# Altium integrated library Motorola Discrete MOSFET.IntLib: 162 symbols (part 3 of 3)
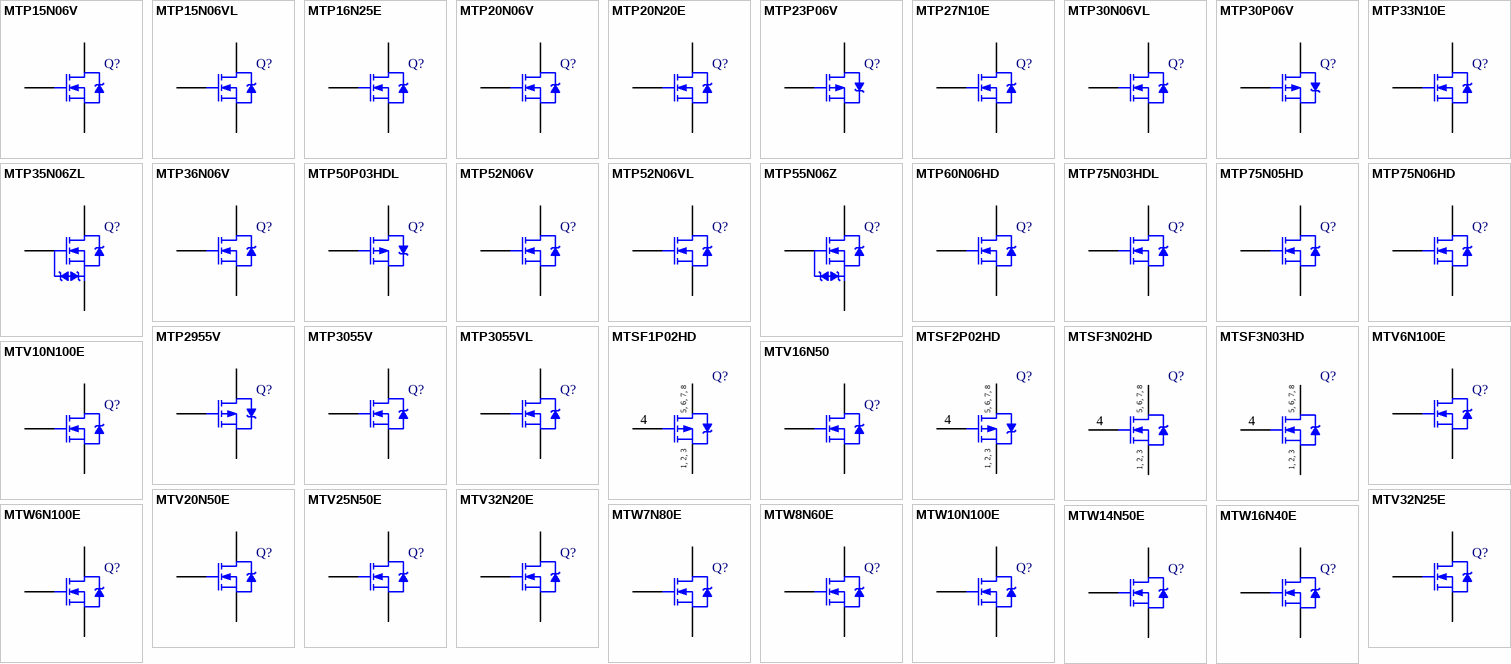
[diagram p6: symbols MTP15N06V to MTW16N40E]

## MTP16N25E
designator Q?
TMOS E-FET Power Field Effect Transistor; Note: Pin 2 is electrically connected to Pin 4 (TAB); ComponentAvailability: Obsolete; Published: 29-Sep-2000; LatestRevisionDate: 17-Jul-2002; LatestRevisionNote: Re-released for DXP Platform.; DatasheetVersion: 1995; PackageVersion: 1997; PackageReference: 221A-06; Publisher: Altium Limited; PackageDescription: TO, Thru-Hole, Vertical, Heatsink Mounted; 3 In-Line Leads; Pitch 2.54 mm; Code_JEDEC: TO-262-AA; ComponentLink1Description: Manufacturer Link; ComponentLink1URL: http://www.onsemi.com/site/products/landing?taxonomyID=194; ComponentLink2Description: Datasheet; ComponentLink2URL: http://www.onsemi.com/pub/Collateral/MTP16N25E-D.PDF
footprint 221A-06 (TO, Thru-Hole, Vertical, Heatsink Mounted; 3 In-Line Leads; Pitch 2.54 mm)
simulation model MTP16N25E (SUBCKT)
pins: 1 G, 2 D, 3 S

## MTP20N06V
designator Q?
TMOS V Power Field Effect Transistor; Note: Pin 2 is electrically connected to Pin 4 (TAB); Published: 29-Sep-2000; LatestRevisionDate: 17-Jul-2002; LatestRevisionNote: Re-released for DXP Platform.; DatasheetVersion: 1996; PackageVersion: 1997; PackageReference: 221A-06; Publisher: Altium Limited; PackageDescription: TO, Thru-Hole, Vertical, Heatsink Mounted; 3 In-Line Leads; Pitch 2.54 mm; Code_JEDEC: TO-262-AA; ComponentLink1Description: Manufacturer Link; ComponentLink1URL: http://www.onsemi.com/site/products/landing?taxonomyID=194; ComponentLink2Description: Datasheet; ComponentLink2URL: http://www.onsemi.com/pub/Collateral/MTP20N06V-D.PDF
footprint 221A-06 (TO, Thru-Hole, Vertical, Heatsink Mounted; 3 In-Line Leads; Pitch 2.54 mm)
simulation model MTP20N06V (SUBCKT)
pins: 1 G, 2 D, 3 S

## MTP20N20E
designator Q?
TMOS E-FET Power Field Effect Transistor; Note: Pin 2 is electrically connected to Pin 4 (TAB); ComponentAvailability: Obsolete; Published: 29-Sep-2000; LatestRevisionDate: 17-Jul-2002; LatestRevisionNote: Re-released for DXP Platform.; DatasheetVersion: 1995; PackageVersion: 1997; PackageReference: 221A-06; Publisher: Altium Limited; PackageDescription: TO, Thru-Hole, Vertical, Heatsink Mounted; 3 In-Line Leads; Pitch 2.54 mm; Code_JEDEC: TO-262-AA; ComponentLink1Description: Manufacturer Link; ComponentLink1URL: http://www.onsemi.com/site/products/landing?taxonomyID=194; ComponentLink2Description: Datasheet; ComponentLink2URL: http://www.onsemi.com/pub/Collateral/MTP20N20E-D.PDF
footprint 221A-06 (TO, Thru-Hole, Vertical, Heatsink Mounted; 3 In-Line Leads; Pitch 2.54 mm)
simulation model MTP20N20E (SUBCKT)
pins: 1 G, 2 D, 3 S

## MTP23P06V
designator Q?
TMOS V Power Field Effect Transistor; Note: Pin 2 is electrically connected to Pin 4 (TAB); Published: 29-Sep-2000; LatestRevisionDate: 17-Jul-2002; LatestRevisionNote: Re-released for DXP Platform.; DatasheetVersion: 1996; PackageVersion: 1997; PackageReference: 221A-06; Publisher: Altium Limited; PackageDescription: TO, Thru-Hole, Vertical, Heatsink Mounted; 3 In-Line Leads; Pitch 2.54 mm; Code_JEDEC: TO-262-AA; ComponentLink1Description: Manufacturer Link; ComponentLink1URL: http://www.onsemi.com/site/products/landing?taxonomyID=194; ComponentLink2Description: Datasheet; ComponentLink2URL: http://www.onsemi.com/pub/Collateral/MTP23P06V-D.PDF
footprint 221A-06 (TO, Thru-Hole, Vertical, Heatsink Mounted; 3 In-Line Leads; Pitch 2.54 mm)
simulation model MTP23P06V (SUBCKT)
pins: 1 G, 2 D, 3 S

## MTP27N10E
designator Q?
TMOS E-FET Power Field Effect Transistor; Note: Pin 2 is electrically connected to Pin 4 (TAB); Published: 29-Sep-2000; LatestRevisionDate: 17-Jul-2002; LatestRevisionNote: Re-released for DXP Platform.; DatasheetVersion: 1996; PackageVersion: 1997; PackageReference: 221A-06; Publisher: Altium Limited; PackageDescription: TO, Thru-Hole, Vertical, Heatsink Mounted; 3 In-Line Leads; Pitch 2.54 mm; Code_JEDEC: TO-262-AA; ComponentLink1Description: Manufacturer Link; ComponentLink1URL: http://www.onsemi.com/site/products/landing?taxonomyID=194; ComponentLink2Description: Datasheet; ComponentLink2URL: http://www.onsemi.com/pub/Collateral/MTP27N10E-D.PDF
footprint 221A-06 (TO, Thru-Hole, Vertical, Heatsink Mounted; 3 In-Line Leads; Pitch 2.54 mm)
simulation model MTP27N10E (SUBCKT)
pins: 1 G, 2 D, 3 S

## MTP30N06VL
designator Q?
TMOS V Power Field Effect Transistor; Note: Pin 2 is electrically connected to Pin 4 (TAB); ComponentAvailability: Obsolete; Published: 29-Sep-2000; LatestRevisionDate: 17-Jul-2002; LatestRevisionNote: Re-released for DXP Platform.; DatasheetVersion: 1996; PackageVersion: 1997; PackageReference: 221A-06; Publisher: Altium Limited; PackageDescription: TO, Thru-Hole, Vertical, Heatsink Mounted; 3 In-Line Leads; Pitch 2.54 mm; Code_JEDEC: TO-262-AA; ComponentLink1Description: Manufacturer Link; ComponentLink1URL: http://www.onsemi.com/site/products/landing?taxonomyID=194; ComponentLink2Description: Datasheet; ComponentLink2URL: http://www.onsemi.com/pub/Collateral/MTP30N06VL-D.PDF
footprint 221A-06 (TO, Thru-Hole, Vertical, Heatsink Mounted; 3 In-Line Leads; Pitch 2.54 mm)
simulation model MTP30N06VL (SUBCKT)
pins: 1 G, 2 D, 3 S

## MTP30P06V
designator Q?
TMOS V Power Field Effect Transistor; Note: Pin 2 is electrically connected to Pin 4 (TAB); ComponentAvailability: Obsolete; Published: 29-Sep-2000; LatestRevisionDate: 17-Jul-2002; LatestRevisionNote: Re-released for DXP Platform.; DatasheetVersion: 1996; PackageVersion: 1997; PackageReference: 221A-06; Publisher: Altium Limited; PackageDescription: TO, Thru-Hole, Vertical, Heatsink Mounted; 3 In-Line Leads; Pitch 2.54 mm; Code_JEDEC: TO-262-AA; ComponentLink1Description: Manufacturer Link; ComponentLink1URL: http://www.onsemi.com/site/products/landing?taxonomyID=194; ComponentLink2Description: Datasheet; ComponentLink2URL: http://www.onsemi.com/pub/Collateral/MTP30P06V-D.PDF
footprint 221A-06 (TO, Thru-Hole, Vertical, Heatsink Mounted; 3 In-Line Leads; Pitch 2.54 mm)
simulation model MTP30P06V (SUBCKT)
pins: 1 G, 2 D, 3 S

## MTP33N10E
designator Q?
TMOS E-FET Power Field Effect Transistor; Note: Pin 2 is electrically connected to Pin 4 (TAB); ComponentAvailability: Obsolete; Published: 29-Sep-2000; LatestRevisionDate: 17-Jul-2002; LatestRevisionNote: Re-released for DXP Platform.; DatasheetVersion: 1995; PackageVersion: 1997; PackageReference: 221A-06; Publisher: Altium Limited; PackageDescription: TO, Thru-Hole, Vertical, Heatsink Mounted; 3 In-Line Leads; Pitch 2.54 mm; Code_JEDEC: TO-262-AA; ComponentLink1Description: Manufacturer Link; ComponentLink1URL: http://www.onsemi.com/site/products/landing?taxonomyID=194; ComponentLink2Description: Datasheet; ComponentLink2URL: http://www.onsemi.com/pub/Collateral/MTP33N10E-D.PDF
footprint 221A-06 (TO, Thru-Hole, Vertical, Heatsink Mounted; 3 In-Line Leads; Pitch 2.54 mm)
simulation model MTP33N10E (SUBCKT)
pins: 1 G, 2 D, 3 S

## MTP35N06ZL
designator Q?
HDTMOS E-FET Power Field Effect Transistor; Note: Pin 2 is electrically connected to Pin 4 (TAB); Published: 29-Sep-2000; LatestRevisionDate: 17-Jul-2002; LatestRevisionNote: Re-released for DXP Platform.; PackageVersion: 1997; PackageReference: 221A-06; Publisher: Altium Limited; PackageDescription: TO, Thru-Hole, Vertical, Heatsink Mounted; 3 In-Line Leads; Pitch 2.54 mm; Code_JEDEC: TO-262-AA; ComponentLink1Description: Manufacturer Link; ComponentLink1URL: http://www.onsemi.com/site/products/landing?taxonomyID=194
footprint 221A-06 (TO, Thru-Hole, Vertical, Heatsink Mounted; 3 In-Line Leads; Pitch 2.54 mm)
simulation model MTP35N06ZL (SUBCKT)
pins: 1 G, 2 D, 3 S

## MTP36N06V
designator Q?
TMOS V Power Field Effect Transistor; Note: Pin 2 is electrically connected to Pin 4 (TAB); ComponentAvailability: Obsolete; Published: 29-Sep-2000; LatestRevisionDate: 17-Jul-2002; LatestRevisionNote: Re-released for DXP Platform.; DatasheetVersion: 1996; PackageVersion: 1997; PackageReference: 221A-06; Publisher: Altium Limited; PackageDescription: TO, Thru-Hole, Vertical, Heatsink Mounted; 3 In-Line Leads; Pitch 2.54 mm; Code_JEDEC: TO-262-AA; ComponentLink1Description: Manufacturer Link; ComponentLink1URL: http://www.onsemi.com/site/products/landing?taxonomyID=194; ComponentLink2Description: Datasheet; ComponentLink2URL: http://www.onsemi.com/pub/Collateral/MTP36N06V-D.PDF
footprint 221A-06 (TO, Thru-Hole, Vertical, Heatsink Mounted; 3 In-Line Leads; Pitch 2.54 mm)
simulation model MTP36N06V (SUBCKT)
pins: 1 G, 2 D, 3 S

## MTP50P03HDL
designator Q?
HDTMOS E-FET Power Field Effect Transistor; Note: Pin 2 is electrically connected to Pin 4 (TAB); Published: 29-Sep-2000; LatestRevisionDate: 17-Jul-2002; LatestRevisionNote: Re-released for DXP Platform.; DatasheetVersion: 1997; PackageVersion: 1997; PackageReference: 221A-06; Publisher: Altium Limited; PackageDescription: TO, Thru-Hole, Vertical, Heatsink Mounted; 3 In-Line Leads; Pitch 2.54 mm; Code_JEDEC: TO-262-AA; ComponentLink1Description: Manufacturer Link; ComponentLink1URL: http://www.onsemi.com/site/products/landing?taxonomyID=194; ComponentLink2Description: Datasheet; ComponentLink2URL: http://www.onsemi.com/pub/Collateral/MTP50P03HDL-D.PDF
footprint 221A-06 (TO, Thru-Hole, Vertical, Heatsink Mounted; 3 In-Line Leads; Pitch 2.54 mm)
simulation model MTP50P03HDL (SUBCKT)
pins: 1 G, 2 D, 3 S

## MTP52N06V
designator Q?
TMOS V Power Field Effect Transistor; Note: Pin 2 is electrically connected to Pin 4 (TAB); ComponentAvailability: Obsolete; Published: 29-Sep-2000; LatestRevisionDate: 17-Jul-2002; LatestRevisionNote: Re-released for DXP Platform.; DatasheetVersion: 1996; PackageVersion: 1997; PackageReference: 221A-06; Publisher: Altium Limited; PackageDescription: TO, Thru-Hole, Vertical, Heatsink Mounted; 3 In-Line Leads; Pitch 2.54 mm; Code_JEDEC: TO-262-AA; ComponentLink1Description: Manufacturer Link; ComponentLink1URL: http://www.onsemi.com/site/products/landing?taxonomyID=194; ComponentLink2Description: Datasheet; ComponentLink2URL: http://www.onsemi.com/pub/Collateral/MTP52N06V-D.PDF
footprint 221A-06 (TO, Thru-Hole, Vertical, Heatsink Mounted; 3 In-Line Leads; Pitch 2.54 mm)
simulation model MTP52N06V (SUBCKT)
pins: 1 G, 2 D, 3 S

## MTP52N06VL
designator Q?
TMOS V Power Field Effect Transistor; Note: Pin 2 is electrically connected to Pin 4 (TAB); ComponentAvailability: Obsolete; Published: 29-Sep-2000; LatestRevisionDate: 17-Jul-2002; LatestRevisionNote: Re-released for DXP Platform.; DatasheetVersion: 1996; PackageVersion: 1997; PackageReference: 221A-06; Publisher: Altium Limited; PackageDescription: TO, Thru-Hole, Vertical, Heatsink Mounted; 3 In-Line Leads; Pitch 2.54 mm; Code_JEDEC: TO-262-AA; ComponentLink1Description: Manufacturer Link; ComponentLink1URL: http://www.onsemi.com/site/products/landing?taxonomyID=194; ComponentLink2Description: Datasheet; ComponentLink2URL: http://www.onsemi.com/pub/Collateral/MTP52N06VL-D.PDF
footprint 221A-06 (TO, Thru-Hole, Vertical, Heatsink Mounted; 3 In-Line Leads; Pitch 2.54 mm)
simulation model MTP52N06VL (SUBCKT)
pins: 1 G, 2 D, 3 S

## MTP55N06Z
designator Q?
TMOS E-FET Power Field Effect Transistor; Note: Pin 2 is electrically connected to Pin 4 (TAB); Published: 29-Sep-2000; LatestRevisionDate: 17-Jul-2002; LatestRevisionNote: Re-released for DXP Platform.; DatasheetVersion: 1997; PackageVersion: 1997; PackageReference: 221A-06; Publisher: Altium Limited; PackageDescription: TO, Thru-Hole, Vertical, Heatsink Mounted; 3 In-Line Leads; Pitch 2.54 mm; Code_JEDEC: TO-262-AA; ComponentLink1Description: Manufacturer Link; ComponentLink1URL: http://www.onsemi.com/site/products/landing?taxonomyID=194
footprint 221A-06 (TO, Thru-Hole, Vertical, Heatsink Mounted; 3 In-Line Leads; Pitch 2.54 mm)
simulation model MTP55N06Z (SUBCKT)
pins: 1 G, 2 D, 3 S

## MTP60N06HD
designator Q?
HDTMOS E-FET Power Field Effect Transistor; Note: Pin 2 is electrically connected to Pin 4 (TAB); Published: 29-Sep-2000; LatestRevisionDate: 17-Jul-2002; LatestRevisionNote: Re-released for DXP Platform.; DatasheetVersion: 1995; PackageVersion: 1997; PackageReference: 221A-06; Publisher: Altium Limited; PackageDescription: TO, Thru-Hole, Vertical, Heatsink Mounted; 3 In-Line Leads; Pitch 2.54 mm; Code_JEDEC: TO-262-AA; ComponentLink1Description: Manufacturer Link; ComponentLink1URL: http://www.onsemi.com/site/products/landing?taxonomyID=194; ComponentLink2Description: Datasheet; ComponentLink2URL: http://www.onsemi.com/pub/Collateral/MTP60N06HD-D.PDF
footprint 221A-06 (TO, Thru-Hole, Vertical, Heatsink Mounted; 3 In-Line Leads; Pitch 2.54 mm)
simulation model MTP60N06HD (SUBCKT)
pins: 1 G, 2 D, 3 S

## MTP75N03HDL
designator Q?
HDTMOS E-FET High Density Power FET; Note: Pin 2 is electrically connected to Pin 4 (TAB); ComponentAvailability: Obsolete; Published: 29-Sep-2000; LatestRevisionDate: 17-Jul-2002; LatestRevisionNote: Re-released for DXP Platform.; DatasheetVersion: 1995; PackageVersion: 1997; PackageReference: 221A-06; Publisher: Altium Limited; PackageDescription: TO, Thru-Hole, Vertical, Heatsink Mounted; 3 In-Line Leads; Pitch 2.54 mm; Code_JEDEC: TO-262-AA; ComponentLink1Description: Manufacturer Link; ComponentLink1URL: http://www.onsemi.com/site/products/landing?taxonomyID=194; ComponentLink2Description: Datasheet; ComponentLink2URL: http://www.onsemi.com/pub/Collateral/MTP75N03HDL-D.PDF
footprint 221A-06 (TO, Thru-Hole, Vertical, Heatsink Mounted; 3 In-Line Leads; Pitch 2.54 mm)
simulation model MTP75N03HDL (SUBCKT)
pins: 1 G, 2 D, 3 S

## MTP75N05HD
designator Q?
HDTMOS E-FET Power Field Effect Transistor; Note: Pin 2 is electrically connected to Pin 4 (TAB); ComponentAvailability: Obsolete; Published: 29-Sep-2000; LatestRevisionDate: 17-Jul-2002; LatestRevisionNote: Re-released for DXP Platform.; DatasheetVersion: 1995; PackageVersion: 1997; PackageReference: 221A-06; Publisher: Altium Limited; PackageDescription: TO, Thru-Hole, Vertical, Heatsink Mounted; 3 In-Line Leads; Pitch 2.54 mm; Code_JEDEC: TO-262-AA; ComponentLink1Description: Manufacturer Link; ComponentLink1URL: http://www.onsemi.com/site/products/landing?taxonomyID=194; ComponentLink2Description: Datasheet; ComponentLink2URL: http://www.onsemi.com/pub/Collateral/MTP75N05HD-D.PDF
footprint 221A-06 (TO, Thru-Hole, Vertical, Heatsink Mounted; 3 In-Line Leads; Pitch 2.54 mm)
simulation model MTP75N05HD (SUBCKT)
pins: 1 G, 2 D, 3 S

## MTP75N06HD
designator Q?
HDTMOS E-FET High Density Power FET; Note: Pin 2 is electrically connected to Pin 4 (TAB); Published: 29-Sep-2000; LatestRevisionDate: 17-Jul-2002; LatestRevisionNote: Re-released for DXP Platform.; DatasheetVersion: 1995; PackageVersion: 1997; PackageReference: 221A-06; Publisher: Altium Limited; PackageDescription: TO, Thru-Hole, Vertical, Heatsink Mounted; 3 In-Line Leads; Pitch 2.54 mm; Code_JEDEC: TO-262-AA; ComponentLink1Description: Manufacturer Link; ComponentLink1URL: http://www.onsemi.com/site/products/landing?taxonomyID=194; ComponentLink2Description: Datasheet; ComponentLink2URL: http://www.onsemi.com/pub/Collateral/MTP75N06HD-D.PDF
footprint 221A-06 (TO, Thru-Hole, Vertical, Heatsink Mounted; 3 In-Line Leads; Pitch 2.54 mm)
simulation model MTP75N06HD (SUBCKT)
pins: 1 G, 2 D, 3 S

## MTP2955V
designator Q?
TMOS V Power Field Effect Transistor; Note: Pin 2 is electrically connected to Pin 4 (TAB); ComponentAvailability: Obsolete; Published: 29-Sep-2000; LatestRevisionDate: 17-Jul-2002; LatestRevisionNote: Re-released for DXP Platform.; DatasheetVersion: 1997; PackageVersion: 1997; PackageReference: 221A-09; Publisher: Altium Limited; PackageDescription: TO, Thru-Hole, Vertical, Heatsink Mounted; 3 In-Line Leads; Pitch 2.54 mm; Code_JEDEC: TO-262-AA; ComponentLink1Description: Manufacturer Link; ComponentLink1URL: http://www.onsemi.com/site/products/landing?taxonomyID=194; ComponentLink2Description: Datasheet; ComponentLink2URL: http://www.onsemi.com/pub/Collateral/MTP2955V-D.PDF
footprint 221A-09 (TO, Thru-Hole, Vertical, Heatsink Mounted; 3 In-Line Leads; Pitch 2.54 mm)
simulation model MTP2955V (SUBCKT)
pins: 1 G, 2 D, 3 S

## MTP3055V
designator Q?
TMOS V Power Field Effect Transistor; Note: Pin 2 is electrically connected to Pin 4 (TAB); ComponentAvailability: Obsolete; Published: 29-Sep-2000; LatestRevisionDate: 17-Jul-2002; LatestRevisionNote: Re-released for DXP Platform.; DatasheetVersion: 1996; PackageVersion: 1997; PackageReference: 221A-06; Publisher: Altium Limited; PackageDescription: TO, Thru-Hole, Vertical, Heatsink Mounted; 3 In-Line Leads; Pitch 2.54 mm; Code_JEDEC: TO-262-AA; ComponentLink1Description: Manufacturer Link; ComponentLink1URL: http://www.onsemi.com/site/products/landing?taxonomyID=194; ComponentLink2Description: Datasheet; ComponentLink2URL: http://www.onsemi.com/pub/Collateral/MTP3055VL-D.PDF
footprint 221A-06 (TO, Thru-Hole, Vertical, Heatsink Mounted; 3 In-Line Leads; Pitch 2.54 mm)
simulation model MTP3055V (SUBCKT)
pins: 1 G, 2 D, 3 S

## MTP3055VL
designator Q?
TMOS V Power Field Effect Transistor; Note: Pin 2 is electrically connected to Pin 4 (TAB); Published: 29-Sep-2000; LatestRevisionDate: 17-Jul-2002; LatestRevisionNote: Re-released for DXP Platform.; DatasheetVersion: 1996; PackageVersion: 1997; PackageReference: 221A-06; Publisher: Altium Limited; PackageDescription: TO, Thru-Hole, Vertical, Heatsink Mounted; 3 In-Line Leads; Pitch 2.54 mm; Code_JEDEC: TO-262-AA; ComponentLink1Description: Manufacturer Link; ComponentLink1URL: http://www.onsemi.com/site/products/landing?taxonomyID=194; ComponentLink2Description: Datasheet; ComponentLink2URL: http://www.onsemi.com/pub/Collateral/MTP3055VL-D.PDF
footprint 221A-06 (TO, Thru-Hole, Vertical, Heatsink Mounted; 3 In-Line Leads; Pitch 2.54 mm)
simulation model MTP3055VL (SUBCKT)
pins: 1 G, 2 D, 3 S

## MTSF1P02HD
designator Q?
TMOS Single P-Channel Field Effect Transistor; Published: 29-Sep-2000; LatestRevisionDate: 06-Jun-2005; LatestRevisionNote: Stylized 3D Model Added.; DatasheetVersion: 1996; PackageVersion: 1997; PackageReference: 846A-02; Publisher: Altium Limited; PackageDescription: Shrink Small Outline; 8 Leads; Body Width 3 mm; Pitch 0.65 mm; ComponentLink1Description: Manufacturer Link; ComponentLink1URL: http://www.onsemi.com/site/products/landing?taxonomyID=194; ComponentLink2Description: Datasheet; ComponentLink2URL: http://www.onsemi.com/pub/Collateral/MTSF1P02HD-D.PDF
footprint 846A-02 (Shrink Small Outline; 8 Leads; Body Width 3 mm; Pitch 0.65 mm)
3D model 846A-02 (Shrink Small Outline; 8 Leads; Body Width 3 mm; Pitch 0.65 mm)
simulation model MTSF1P02HD (SUBCKT)
pins: 1 S, 2 S, 3 S, 4 G, 5 D, 6 D, 7 D, 8 D
text: 5, 6, 7, 8; 1, 2, 3

## MTSF2P02HD
designator Q?
TMOS Single P-Channel Field Effect Transistor; Published: 29-Sep-2000; LatestRevisionDate: 06-Jun-2005; LatestRevisionNote: Stylized 3D Model Added.; DatasheetVersion: 1997; PackageVersion: 1997; PackageReference: 846A-02; Publisher: Altium Limited; PackageDescription: Shrink Small Outline; 8 Leads; Body Width 3 mm; Pitch 0.65 mm; ComponentLink1Description: Manufacturer Link; ComponentLink1URL: http://www.onsemi.com/site/products/landing?taxonomyID=194; ComponentLink2Description: Datasheet; ComponentLink2URL: http://www.onsemi.com/pub/Collateral/MTSF2P02HD-D.PDF
footprint 846A-02 (Shrink Small Outline; 8 Leads; Body Width 3 mm; Pitch 0.65 mm)
3D model 846A-02 (Shrink Small Outline; 8 Leads; Body Width 3 mm; Pitch 0.65 mm)
simulation model MTSF2P02HD (SUBCKT)
pins: 1 S, 2 S, 3 S, 4 G, 5 D, 6 D, 7 D, 8 D
text: 5, 6, 7, 8; 1, 2, 3

## MTSF3N02HD
designator Q?
TMOS Single N-Channel Field Effect Transistor; ComponentAvailability: Obsolete; Published: 29-Sep-2000; LatestRevisionDate: 06-Jun-2005; LatestRevisionNote: Stylized 3D Model Added.; DatasheetVersion: 1997; PackageVersion: 1997; PackageReference: 846A-02; Publisher: Altium Limited; PackageDescription: Shrink Small Outline; 8 Leads; Body Width 3 mm; Pitch 0.65 mm; ComponentLink1Description: Manufacturer Link; ComponentLink1URL: http://www.onsemi.com/site/products/landing?taxonomyID=194; ComponentLink2Description: Datasheet; ComponentLink2URL: http://www.onsemi.com/pub/Collateral/MTSF3N02HD-D.PDF
footprint 846A-02 (Shrink Small Outline; 8 Leads; Body Width 3 mm; Pitch 0.65 mm)
3D model 846A-02 (Shrink Small Outline; 8 Leads; Body Width 3 mm; Pitch 0.65 mm)
simulation model MTSF3N02HD (SUBCKT)
pins: 1 S, 2 S, 3 S, 4 G, 5 D, 6 D, 7 D, 8 D
text: 5, 6, 7, 8; 1, 2, 3

## MTSF3N03HD
designator Q?
TMOS Single N-Channel Field Effect Transistor; ComponentAvailability: Obsolete; Published: 29-Sep-2000; LatestRevisionDate: 06-Jun-2005; LatestRevisionNote: Stylized 3D Model Added.; DatasheetVersion: 1997; PackageVersion: 1997; PackageReference: 846A-02; Publisher: Altium Limited; PackageDescription: Shrink Small Outline; 8 Leads; Body Width 3 mm; Pitch 0.65 mm; ComponentLink1Description: Manufacturer Link; ComponentLink1URL: http://www.onsemi.com/site/products/landing?taxonomyID=194; ComponentLink2Description: Datasheet; ComponentLink2URL: http://www.onsemi.com/pub/Collateral/MTSF3N03HD-D.PDF
footprint 846A-02 (Shrink Small Outline; 8 Leads; Body Width 3 mm; Pitch 0.65 mm)
3D model 846A-02 (Shrink Small Outline; 8 Leads; Body Width 3 mm; Pitch 0.65 mm)
simulation model MTSF3N03HD (SUBCKT)
pins: 1 S, 2 S, 3 S, 4 G, 5 D, 6 D, 7 D, 8 D
text: 5, 6, 7, 8; 1, 2, 3

## MTV6N100E
designator Q?
TMOS E-FET Power Field Effect Transistor D3PAK for Surface Mount; Note: Pin 2 is trimmed and is electrically connected to Pin 4 (Drain); Published: 29-Sep-2000; LatestRevisionDate: 17-Jan-2003; LatestRevisionNote: PCB Footprint, 'SIP-G3/Y3.4' replaced.; DatasheetVersion: 1996; PackageVersion: 1996; PackageReference: 433-01; Publisher: Altium Limited; PackageDescription: D3-PAK/TO-268-AA; 3 Leads (1 Cropped); Body 19.1 (inc. leads) x 15.9 mm (LxW max); Code_JEDEC: TO-268-AA; Code_IPC: TO 368; ComponentLink1Description: Manufacturer Link; ComponentLink1URL: http://www.onsemi.com/site/products/landing?taxonomyID=194; ComponentLink2Description: Datasheet; ComponentLink2URL: http://www.onsemi.com/pub/Collateral/MTV6N100E-D.PDF
footprint 433-01 (D3-PAK/TO-268-AA; 3 Leads (1 Cropped); Body 19.1 (inc. leads) x 15.9 mm (LxW max))
simulation model MTV6N100E (SUBCKT)
pins: 1 G, 3 S, 4 D

## MTV10N100E
designator Q?
TMOS E-FET Power Field Effect Transistor D3PAK for Surface Mount; Note: Pin 2 is trimmed and is electrically connected to Pin 4 (Drain); Published: 29-Sep-2000; LatestRevisionDate: 17-Jan-2003; LatestRevisionNote: PCB Footprint, 'SIP-G3/Y3.4' replaced.; DatasheetVersion: 1996; PackageVersion: 1996; PackageReference: 433-01; Publisher: Altium Limited; PackageDescription: D3-PAK/TO-268-AA; 3 Leads (1 Cropped); Body 19.1 (inc. leads) x 15.9 mm (LxW max); Code_JEDEC: TO-268-AA; Code_IPC: TO 368; ComponentLink1Description: Manufacturer Link; ComponentLink1URL: http://www.onsemi.com/site/products/landing?taxonomyID=194; ComponentLink2Description: Datasheet; ComponentLink2URL: http://www.onsemi.com/pub/Collateral/MTV10N100E-D.PDF
footprint 433-01 (D3-PAK/TO-268-AA; 3 Leads (1 Cropped); Body 19.1 (inc. leads) x 15.9 mm (LxW max))
simulation model MTV10N100E (SUBCKT)
pins: 1 G, 3 S, 4 D

## MTV16N50
designator Q?
TMOS E-FET Power Field Effect Transistor D3PAK for Surface Mount; Note: Pin 2 is trimmed and is electrically connected to Pin 4 (Drain); Published: 29-Sep-2000; LatestRevisionDate: 17-Jan-2003; LatestRevisionNote: PCB Footprint, 'SIP-G3/Y3.4' replaced.; DatasheetVersion: 1996; PackageVersion: 1996; PackageReference: 433-01; Publisher: Altium Limited; PackageDescription: D3-PAK/TO-268-AA; 3 Leads (1 Cropped); Body 19.1 (inc. leads) x 15.9 mm (LxW max); Code_JEDEC: TO-268-AA; Code_IPC: TO 368; ComponentLink1Description: Manufacturer Link; ComponentLink1URL: http://www.onsemi.com/site/products/landing?taxonomyID=194; ComponentLink2Description: Datasheet; ComponentLink2URL: http://www.onsemi.com/pub/Collateral/MTV16N50E-D.PDF
footprint 433-01 (D3-PAK/TO-268-AA; 3 Leads (1 Cropped); Body 19.1 (inc. leads) x 15.9 mm (LxW max))
simulation model MTV16N50E (SUBCKT)
pins: 1 G, 3 S, 4 D

## MTV20N50E
designator Q?
TMOS E-FET Power Field Effect Transistor D3PAK for Surface Mount; Note: Pin 2 is trimmed and is electrically connected to Pin 4 (Drain); Published: 29-Sep-2000; LatestRevisionDate: 17-Jan-2003; LatestRevisionNote: PCB Footprint, 'SIP-G3/Y3.4' replaced.; DatasheetVersion: 1996; PackageVersion: 1996; PackageReference: 433-01; Publisher: Altium Limited; PackageDescription: D3-PAK/TO-268-AA; 3 Leads (1 Cropped); Body 19.1 (inc. leads) x 15.9 mm (LxW max); Code_JEDEC: TO-268-AA; Code_IPC: TO 368; ComponentLink1Description: Manufacturer Link; ComponentLink1URL: http://www.onsemi.com/site/products/landing?taxonomyID=194; ComponentLink2Description: Datasheet; ComponentLink2URL: http://www.onsemi.com/pub/Collateral/MTV20N50E-D.PDF
footprint 433-01 (D3-PAK/TO-268-AA; 3 Leads (1 Cropped); Body 19.1 (inc. leads) x 15.9 mm (LxW max))
simulation model MTV20N50E (SUBCKT)
pins: 1 G, 3 S, 4 D

## MTV25N50E
designator Q?
TMOS E-FET Power Field Effect Transistor D3PAK for Surface Mount; Note: Pin 2 is trimmed and is electrically connected to Pin 4 (Drain); ComponentAvailability: Obsolete; Published: 29-Sep-2000; LatestRevisionDate: 17-Jan-2003; LatestRevisionNote: PCB Footprint, 'SIP-G3/Y3.4' replaced.; DatasheetVersion: 1996; PackageVersion: 1996; PackageReference: 433-01; Publisher: Altium Limited; PackageDescription: D3-PAK/TO-268-AA; 3 Leads (1 Cropped); Body 19.1 (inc. leads) x 15.9 mm (LxW max); Code_JEDEC: TO-268-AA; Code_IPC: TO 368; ComponentLink1Description: Manufacturer Link; ComponentLink1URL: http://www.onsemi.com/site/products/landing?taxonomyID=194; ComponentLink2Description: Datasheet; ComponentLink2URL: http://www.onsemi.com/pub/Collateral/MTV25N50E-D.PDF
footprint 433-01 (D3-PAK/TO-268-AA; 3 Leads (1 Cropped); Body 19.1 (inc. leads) x 15.9 mm (LxW max))
simulation model MTV25N50E (SUBCKT)
pins: 1 G, 3 S, 4 D

## MTV32N20E
designator Q?
TMOS E-FET Power Field Effect Transistor D3PAK for Surface Mount; Note: Pin 2 is trimmed and is electrically connected to Pin 4 (Drain); ComponentAvailability: Obsolete; Published: 29-Sep-2000; LatestRevisionDate: 17-Jan-2003; LatestRevisionNote: PCB Footprint, 'SIP-G3/Y3.4' replaced.; DatasheetVersion: 1996; PackageVersion: 1996; PackageReference: 433-01; Publisher: Altium Limited; PackageDescription: D3-PAK/TO-268-AA; 3 Leads (1 Cropped); Body 19.1 (inc. leads) x 15.9 mm (LxW max); Code_JEDEC: TO-268-AA; Code_IPC: TO 368; ComponentLink1Description: Manufacturer Link; ComponentLink1URL: http://www.onsemi.com/site/products/landing?taxonomyID=194; ComponentLink2Description: Datasheet; ComponentLink2URL: http://www.onsemi.com/pub/Collateral/MTV32N20E-D.PDF
footprint 433-01 (D3-PAK/TO-268-AA; 3 Leads (1 Cropped); Body 19.1 (inc. leads) x 15.9 mm (LxW max))
simulation model MTV32N20E (SUBCKT)
pins: 1 G, 3 S, 4 D

## MTV32N25E
designator Q?
TMOS E-FET Power Field Effect Transistor D3PAK for Surface Mount; Note: Pin 2 is trimmed and is electrically connected to Pin 4 (Drain); Published: 29-Sep-2000; LatestRevisionDate: 17-Jan-2003; LatestRevisionNote: PCB Footprint, 'SIP-G3/Y3.4' replaced.; DatasheetVersion: 1995; PackageVersion: 1996; PackageReference: 433-01; Publisher: Altium Limited; PackageDescription: D3-PAK/TO-268-AA; 3 Leads (1 Cropped); Body 19.1 (inc. leads) x 15.9 mm (LxW max); Code_JEDEC: TO-268-AA; Code_IPC: TO 368; ComponentLink1Description: Manufacturer Link; ComponentLink1URL: http://www.onsemi.com/site/products/landing?taxonomyID=194; ComponentLink2Description: Datasheet; ComponentLink2URL: http://www.onsemi.com/pub/Collateral/MTV32N25E-D.PDF
footprint 433-01 (D3-PAK/TO-268-AA; 3 Leads (1 Cropped); Body 19.1 (inc. leads) x 15.9 mm (LxW max))
simulation model MTV32N25E (SUBCKT)
pins: 1 G, 3 S, 4 D

## MTW6N100E
designator Q?
TMOS E-FET Power Field Effect Transistor TO-247 with Isolated Mounting Hole; Note: Pin 2 is electrically connected to Pin 4 (BASE); Published: 29-Sep-2000; LatestRevisionDate: 17-Jul-2002; LatestRevisionNote: Re-released for DXP Platform.; DatasheetVersion: 1996; PackageVersion: 1996; PackageReference: 340K-01; Publisher: Altium Limited; PackageDescription: SIP with Mounting Hole; 3 Leads; Body 20 x 15.6 x 5 mm (typ); Pitch 5.5 mm; ComponentLink1Description: Manufacturer Link; ComponentLink1URL: http://www.onsemi.com/site/products/landing?taxonomyID=194; ComponentLink2Description: Datasheet; ComponentLink2URL: http://www.onsemi.com/pub/Collateral/MTW6N100E-D.PDF
footprint 340K-01 (SIP with Mounting Hole; 3 Leads; Body 20 x 15.6 x 5 mm (typ); Pitch 5.5 mm)
simulation model MTW6N100E (SUBCKT)
pins: 1 G, 2 D, 3 S

## MTW7N80E
designator Q?
TMOS E-FET Power Field Effect Transistor TO-247 with Isolated Mounting Hole; Note: Pin 2 is electrically connected to Pin 4 (BASE); Published: 29-Sep-2000; LatestRevisionDate: 17-Jul-2002; LatestRevisionNote: Re-released for DXP Platform.; DatasheetVersion: 1996; PackageVersion: 1996; PackageReference: 340K-01; Publisher: Altium Limited; PackageDescription: SIP with Mounting Hole; 3 Leads; Body 20 x 15.6 x 5 mm (typ); Pitch 5.5 mm; ComponentLink1Description: Manufacturer Link; ComponentLink1URL: http://www.onsemi.com/site/products/landing?taxonomyID=194; ComponentLink2Description: Datasheet; ComponentLink2URL: http://www.onsemi.com/pub/Collateral/MTW7N80E-D.PDF
footprint 340K-01 (SIP with Mounting Hole; 3 Leads; Body 20 x 15.6 x 5 mm (typ); Pitch 5.5 mm)
simulation model MTW7N80E (SUBCKT)
pins: 1 G, 2 D, 3 S

## MTW8N60E
designator Q?
TMOS E-FET Power Field Effect Transistor TO-247 with Isolated Mounting Hole; Note: Pin 2 is electrically connected to Pin 4 (BASE); ComponentAvailability: Obsolete; Published: 29-Sep-2000; LatestRevisionDate: 17-Jul-2002; LatestRevisionNote: Re-released for DXP Platform.; DatasheetVersion: 1996; PackageVersion: 1996; PackageReference: 340K-01; Publisher: Altium Limited; PackageDescription: SIP with Mounting Hole; 3 Leads; Body 20 x 15.6 x 5 mm (typ); Pitch 5.5 mm; ComponentLink1Description: Manufacturer Link; ComponentLink1URL: http://www.onsemi.com/site/products/landing?taxonomyID=194; ComponentLink2Description: Datasheet; ComponentLink2URL: http://www.onsemi.com/pub/Collateral/MTW8N60E-D.PDF
footprint 340K-01 (SIP with Mounting Hole; 3 Leads; Body 20 x 15.6 x 5 mm (typ); Pitch 5.5 mm)
simulation model MTW8N60E (SUBCKT)
pins: 1 G, 2 D, 3 S

## MTW10N100E
designator Q?
TMOS E-FET Power Field Effect Transistor TO-247 with Isolated Mounting Hole; Note: Pin 2 is electrically connected to Pin 4 (BASE); Published: 29-Sep-2000; LatestRevisionDate: 17-Jul-2002; LatestRevisionNote: Re-released for DXP Platform.; DatasheetVersion: 1996; PackageVersion: 1996; PackageReference: 340K-01; Publisher: Altium Limited; PackageDescription: SIP with Mounting Hole; 3 Leads; Body 20 x 15.6 x 5 mm (typ); Pitch 5.5 mm; ComponentLink1Description: Manufacturer Link; ComponentLink1URL: http://www.onsemi.com/site/products/landing?taxonomyID=194; ComponentLink2Description: Datasheet; ComponentLink2URL: http://www.onsemi.com/pub/Collateral/MTW10N100E-D.PDF
footprint 340K-01 (SIP with Mounting Hole; 3 Leads; Body 20 x 15.6 x 5 mm (typ); Pitch 5.5 mm)
simulation model MTW10N100E (SUBCKT)
pins: 1 G, 2 D, 3 S

## MTW14N50E
designator Q?
TMOS E-FET Power Field Effect Transistor TO-247 with Isolated Mounting Hole; Note: Pin 2 is electrically connected to Pin 4 (BASE); Published: 29-Sep-2000; LatestRevisionDate: 17-Jul-2002; LatestRevisionNote: Re-released for DXP Platform.; DatasheetVersion: 1996; PackageVersion: 1996; PackageReference: 340K-01; Publisher: Altium Limited; PackageDescription: SIP with Mounting Hole; 3 Leads; Body 20 x 15.6 x 5 mm (typ); Pitch 5.5 mm; ComponentLink1Description: Manufacturer Link; ComponentLink1URL: http://www.onsemi.com/site/products/landing?taxonomyID=194; ComponentLink2Description: Datasheet; ComponentLink2URL: http://www.onsemi.com/pub/Collateral/MTW14N50E-D.PDF
footprint 340K-01 (SIP with Mounting Hole; 3 Leads; Body 20 x 15.6 x 5 mm (typ); Pitch 5.5 mm)
simulation model MTW14N50E (SUBCKT)
pins: 1 G, 2 D, 3 S

## MTW16N40E
designator Q?
TMOS E-FET Power Field Effect Transistor TO-247 with Isolated Mounting Hole; Note: Pin 2 is electrically connected to Pin 4 (BASE); ComponentAvailability: Obsolete; Published: 29-Sep-2000; LatestRevisionDate: 17-Jul-2002; LatestRevisionNote: Re-released for DXP Platform.; DatasheetVersion: 1996; PackageVersion: 1996; PackageReference: 340K-01; Publisher: Altium Limited; PackageDescription: SIP with Mounting Hole; 3 Leads; Body 20 x 15.6 x 5 mm (typ); Pitch 5.5 mm; ComponentLink1Description: Manufacturer Link; ComponentLink1URL: http://www.onsemi.com/site/products/landing?taxonomyID=194; ComponentLink2Description: Datasheet; ComponentLink2URL: http://www.onsemi.com/pub/Collateral/MTW16N40E-D.PDF
footprint 340K-01 (SIP with Mounting Hole; 3 Leads; Body 20 x 15.6 x 5 mm (typ); Pitch 5.5 mm)
simulation model MTW16N40E (SUBCKT)
pins: 1 G, 2 D, 3 S

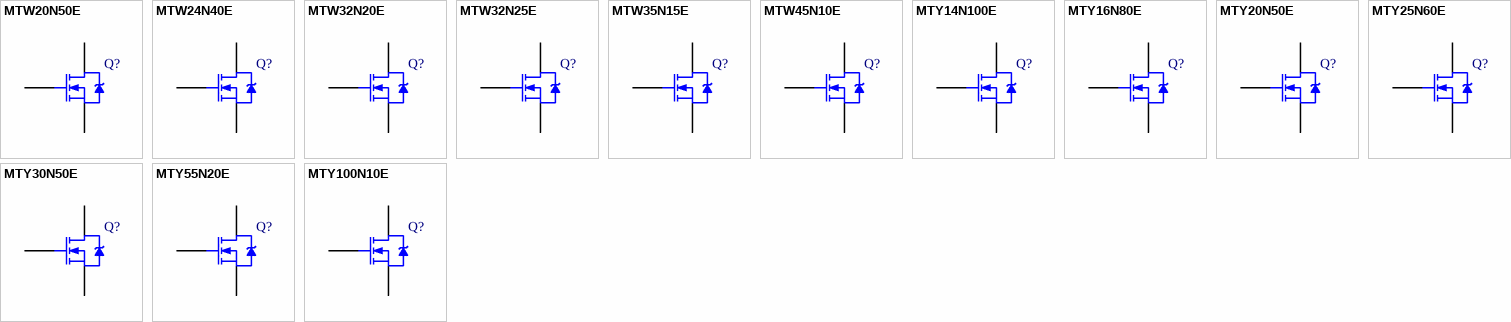
[diagram p4: symbols MTW20N50E to MTY100N10E]

## MTW20N50E
designator Q?
TMOS E-FET Power Field Effect Transistor TO-247 with Isolated Mounting Hole; Note: Pin 2 is electrically connected to Pin 4 (BASE); Published: 29-Sep-2000; LatestRevisionDate: 17-Jul-2002; LatestRevisionNote: Re-released for DXP Platform.; DatasheetVersion: 1996; PackageVersion: 1996; PackageReference: 340K-01; Publisher: Altium Limited; PackageDescription: SIP with Mounting Hole; 3 Leads; Body 20 x 15.6 x 5 mm (typ); Pitch 5.5 mm; ComponentLink1Description: Manufacturer Link; ComponentLink1URL: http://www.onsemi.com/site/products/landing?taxonomyID=194; ComponentLink2Description: Datasheet; ComponentLink2URL: http://www.onsemi.com/pub/Collateral/MTW20N50E-D.PDF
footprint 340K-01 (SIP with Mounting Hole; 3 Leads; Body 20 x 15.6 x 5 mm (typ); Pitch 5.5 mm)
simulation model MTW20N50E (SUBCKT)
pins: 1 G, 2 D, 3 S

## MTW24N40E
designator Q?
TMOS E-FET Power Field Effect Transistor TO-247 with Isolated Mounting Hole; Note: Pin 2 is electrically connected to Pin 4 (BASE); ComponentAvailability: Obsolete; Published: 29-Sep-2000; LatestRevisionDate: 17-Jul-2002; LatestRevisionNote: Re-released for DXP Platform.; DatasheetVersion: 1996; PackageVersion: 1996; PackageReference: 340K-01; Publisher: Altium Limited; PackageDescription: SIP with Mounting Hole; 3 Leads; Body 20 x 15.6 x 5 mm (typ); Pitch 5.5 mm; ComponentLink1Description: Manufacturer Link; ComponentLink1URL: http://www.onsemi.com/site/products/landing?taxonomyID=194; ComponentLink2Description: Datasheet; ComponentLink2URL: http://www.onsemi.com/pub/Collateral/MTW24N40E-D.PDF
footprint 340K-01 (SIP with Mounting Hole; 3 Leads; Body 20 x 15.6 x 5 mm (typ); Pitch 5.5 mm)
simulation model MTW24N40E (SUBCKT)
pins: 1 G, 2 D, 3 S

## MTW32N20E
designator Q?
TMOS E-FET Power Field Effect Transistor TO-247 with Isolated Mounting Hole; Note: Pin 2 is electrically connected to Pin 4 (BASE); Published: 29-Sep-2000; LatestRevisionDate: 17-Jul-2002; LatestRevisionNote: Re-released for DXP Platform.; DatasheetVersion: 1996; PackageVersion: 1996; PackageReference: 340K-01; Publisher: Altium Limited; PackageDescription: SIP with Mounting Hole; 3 Leads; Body 20 x 15.6 x 5 mm (typ); Pitch 5.5 mm; ComponentLink1Description: Manufacturer Link; ComponentLink1URL: http://www.onsemi.com/site/products/landing?taxonomyID=194; ComponentLink2Description: Datasheet; ComponentLink2URL: http://www.onsemi.com/pub/Collateral/MTW32N20E-D.PDF
footprint 340K-01 (SIP with Mounting Hole; 3 Leads; Body 20 x 15.6 x 5 mm (typ); Pitch 5.5 mm)
simulation model MTW32N20E (SUBCKT)
pins: 1 G, 2 D, 3 S

## MTW32N25E
designator Q?
TMOS E-FET Power Field Effect Transistor TO-247 with Isolated Mounting Hole; Note: Pin 2 is electrically connected to Pin 4 (BASE); Published: 29-Sep-2000; LatestRevisionDate: 17-Jul-2002; LatestRevisionNote: Re-released for DXP Platform.; DatasheetVersion: 1996; PackageVersion: 1996; PackageReference: 340K-01; Publisher: Altium Limited; PackageDescription: SIP with Mounting Hole; 3 Leads; Body 20 x 15.6 x 5 mm (typ); Pitch 5.5 mm; ComponentLink1Description: Manufacturer Link; ComponentLink1URL: http://www.onsemi.com/site/products/landing?taxonomyID=194; ComponentLink2Description: Datasheet; ComponentLink2URL: http://www.onsemi.com/pub/Collateral/MTW32N25E-D.PDF
footprint 340K-01 (SIP with Mounting Hole; 3 Leads; Body 20 x 15.6 x 5 mm (typ); Pitch 5.5 mm)
simulation model MTW32N25E (SUBCKT)
pins: 1 G, 2 D, 3 S

## MTW35N15E
designator Q?
TMOS E-FET Power Field Effect Transistor TO-247 with Isolated Mounting Hole; Note: Pin 2 is electrically connected to Pin 4 (BASE); ComponentAvailability: Obsolete; Published: 29-Sep-2000; LatestRevisionDate: 17-Jul-2002; LatestRevisionNote: Re-released for DXP Platform.; DatasheetVersion: 1996; PackageVersion: 1996; PackageReference: 340K-01; Publisher: Altium Limited; PackageDescription: SIP with Mounting Hole; 3 Leads; Body 20 x 15.6 x 5 mm (typ); Pitch 5.5 mm; ComponentLink1Description: Manufacturer Link; ComponentLink1URL: http://www.onsemi.com/site/products/landing?taxonomyID=194; ComponentLink2Description: Datasheet; ComponentLink2URL: http://www.onsemi.com/pub/Collateral/MTW35N15E-D.PDF
footprint 340K-01 (SIP with Mounting Hole; 3 Leads; Body 20 x 15.6 x 5 mm (typ); Pitch 5.5 mm)
simulation model MTW35N15E (SUBCKT)
pins: 1 G, 2 D, 3 S

## MTW45N10E
designator Q?
TMOS E-FET Power Field Effect Transistor TO-247 with Isolated Mounting Hole; Note: Pin 2 is electrically connected to Pin 4 (BASE); Published: 29-Sep-2000; LatestRevisionDate: 17-Jul-2002; LatestRevisionNote: Re-released for DXP Platform.; DatasheetVersion: 1996; PackageVersion: 1996; PackageReference: 340K-01; Publisher: Altium Limited; PackageDescription: SIP with Mounting Hole; 3 Leads; Body 20 x 15.6 x 5 mm (typ); Pitch 5.5 mm; ComponentLink1Description: Manufacturer Link; ComponentLink1URL: http://www.onsemi.com/site/products/landing?taxonomyID=194; ComponentLink2Description: Datasheet; ComponentLink2URL: http://www.onsemi.com/pub/Collateral/MTW45N10E-D.PDF
footprint 340K-01 (SIP with Mounting Hole; 3 Leads; Body 20 x 15.6 x 5 mm (typ); Pitch 5.5 mm)
simulation model MTW45N10E (SUBCKT)
pins: 1 G, 2 D, 3 S

## MTY14N100E
designator Q?
TMOS E-FET Power Field Effect Transistor; Published: 29-Sep-2000; LatestRevisionDate: 17-Jul-2002; LatestRevisionNote: Re-released for DXP Platform.; DatasheetVersion: 1996; PackageVersion: 1996; PackageReference: 340G-02; Publisher: Altium Limited; PackageDescription: SIP with Mounting Hole; 3 Leads; Body 26 x 19.8 x 5 mm (typ); Pitch 5.45 mm; ComponentLink1Description: Manufacturer Link; ComponentLink1URL: http://www.onsemi.com/site/products/landing?taxonomyID=194; ComponentLink2Description: Datasheet; ComponentLink2URL: http://www.onsemi.com/pub/Collateral/MTY14N100E-D.PDF
footprint 340G-02 (SIP with Mounting Hole; 3 Leads; Body 26 x 19.8 x 5 mm (typ); Pitch 5.45 mm)
simulation model MTY14N100E (SUBCKT)
pins: 1 G, 2 D, 3 S

## MTY16N80E
designator Q?
TMOS E-FET Power Field Effect Transistor; Published: 29-Sep-2000; LatestRevisionDate: 17-Jul-2002; LatestRevisionNote: Re-released for DXP Platform.; DatasheetVersion: 1995; PackageVersion: 1996; PackageReference: 340G-02; Publisher: Altium Limited; PackageDescription: SIP with Mounting Hole; 3 Leads; Body 26 x 19.8 x 5 mm (typ); Pitch 5.45 mm; ComponentLink1Description: Manufacturer Link; ComponentLink1URL: http://www.onsemi.com/site/products/landing?taxonomyID=194; ComponentLink2Description: Datasheet; ComponentLink2URL: http://www.onsemi.com/pub/Collateral/MTY16N80E-D.PDF
footprint 340G-02 (SIP with Mounting Hole; 3 Leads; Body 26 x 19.8 x 5 mm (typ); Pitch 5.45 mm)
simulation model MTY16N80E (SUBCKT)
pins: 1 G, 2 D, 3 S

## MTY20N50E
designator Q?
TMOS E-FET Power Field Effect Transistor; Published: 29-Sep-2000; LatestRevisionDate: 17-Jul-2002; LatestRevisionNote: Re-released for DXP Platform.; DatasheetVersion: 1995; PackageVersion: 1996; PackageReference: 340G-02; Publisher: Altium Limited; PackageDescription: SIP with Mounting Hole; 3 Leads; Body 26 x 19.8 x 5 mm (typ); Pitch 5.45 mm; ComponentLink1Description: Manufacturer Link; ComponentLink1URL: http://www.onsemi.com/site/products/landing?taxonomyID=194; ComponentLink2Description: Datasheet; ComponentLink2URL: http://www.onsemi.com/pub/Collateral/MTY20N50E-D.PDF
footprint 340G-02 (SIP with Mounting Hole; 3 Leads; Body 26 x 19.8 x 5 mm (typ); Pitch 5.45 mm)
simulation model MTY20N50E (SUBCKT)
pins: 1 G, 2 D, 3 S

## MTY25N60E
designator Q?
TMOS E-FET Power Field Effect Transistor; ComponentAvailability: Obsolete; Published: 29-Sep-2000; LatestRevisionDate: 17-Jul-2002; LatestRevisionNote: Re-released for DXP Platform.; DatasheetVersion: 1995; PackageVersion: 1996; PackageReference: 340G-02; Publisher: Altium Limited; PackageDescription: SIP with Mounting Hole; 3 Leads; Body 26 x 19.8 x 5 mm (typ); Pitch 5.45 mm; ComponentLink1Description: Manufacturer Link; ComponentLink1URL: http://www.onsemi.com/site/products/landing?taxonomyID=194; ComponentLink2Description: Datasheet; ComponentLink2URL: http://www.onsemi.com/pub/Collateral/MTY25N60E-D.PDF
footprint 340G-02 (SIP with Mounting Hole; 3 Leads; Body 26 x 19.8 x 5 mm (typ); Pitch 5.45 mm)
simulation model MTY25N60E (SUBCKT)
pins: 1 G, 2 D, 3 S

## MTY30N50E
designator Q?
TMOS E-FET Power Field Effect Transistor; ComponentAvailability: Obsolete; Published: 29-Sep-2000; LatestRevisionDate: 17-Jul-2002; LatestRevisionNote: Re-released for DXP Platform.; DatasheetVersion: 1995; PackageVersion: 1996; PackageReference: 340G-02; Publisher: Altium Limited; PackageDescription: SIP with Mounting Hole; 3 Leads; Body 26 x 19.8 x 5 mm (typ); Pitch 5.45 mm; ComponentLink1Description: Manufacturer Link; ComponentLink1URL: http://www.onsemi.com/site/products/landing?taxonomyID=194; ComponentLink2Description: Datasheet; ComponentLink2URL: http://www.onsemi.com/pub/Collateral/MTY30N50E-D.PDF
footprint 340G-02 (SIP with Mounting Hole; 3 Leads; Body 26 x 19.8 x 5 mm (typ); Pitch 5.45 mm)
simulation model MTY30N50E (SUBCKT)
pins: 1 G, 2 D, 3 S

## MTY55N20E
designator Q?
TMOS E-FET Power Field Effect Transistor; ComponentAvailability: Obsolete; Published: 29-Sep-2000; LatestRevisionDate: 17-Jul-2002; LatestRevisionNote: Re-released for DXP Platform.; DatasheetVersion: 1995; PackageVersion: 1996; PackageReference: 340G-02; Publisher: Altium Limited; PackageDescription: SIP with Mounting Hole; 3 Leads; Body 26 x 19.8 x 5 mm (typ); Pitch 5.45 mm; ComponentLink1Description: Manufacturer Link; ComponentLink1URL: http://www.onsemi.com/site/products/landing?taxonomyID=194; ComponentLink2Description: Datasheet; ComponentLink2URL: http://www.onsemi.com/pub/Collateral/MTY55N20E-D.PDF
footprint 340G-02 (SIP with Mounting Hole; 3 Leads; Body 26 x 19.8 x 5 mm (typ); Pitch 5.45 mm)
simulation model MTY55N20E (SUBCKT)
pins: 1 G, 2 D, 3 S

## MTY100N10E
designator Q?
TMOS E-FET Power Field Effect Transistor; ComponentAvailability: Obsolete; Published: 29-Sep-2000; LatestRevisionDate: 17-Jul-2002; LatestRevisionNote: Re-released for DXP Platform.; DatasheetVersion: 1995; PackageVersion: 1996; PackageReference: 340G-02; Publisher: Altium Limited; PackageDescription: SIP with Mounting Hole; 3 Leads; Body 26 x 19.8 x 5 mm (typ); Pitch 5.45 mm; ComponentLink1Description: Manufacturer Link; ComponentLink1URL: http://www.onsemi.com/site/products/landing?taxonomyID=194; ComponentLink2Description: Datasheet; ComponentLink2URL: http://www.onsemi.com/pub/Collateral/MTY100N10E-D.PDF
footprint 340G-02 (SIP with Mounting Hole; 3 Leads; Body 26 x 19.8 x 5 mm (typ); Pitch 5.45 mm)
simulation model MTY100N10E (SUBCKT)
pins: 1 G, 2 D, 3 S